# Altium footprint library Capacitor_updated.PcbLib: 42 footprints (part 2 of 3)
Each footprint in its own frame and in the unit in brackets; x right, y up, seen from the top. Pads: shape width x height; smd on the part's side, far side on the other; paste and mask are expansions set on the pad; w line width, h text height; cw(c..) or ccw(c..) is an arc to the next point about the centre after c.
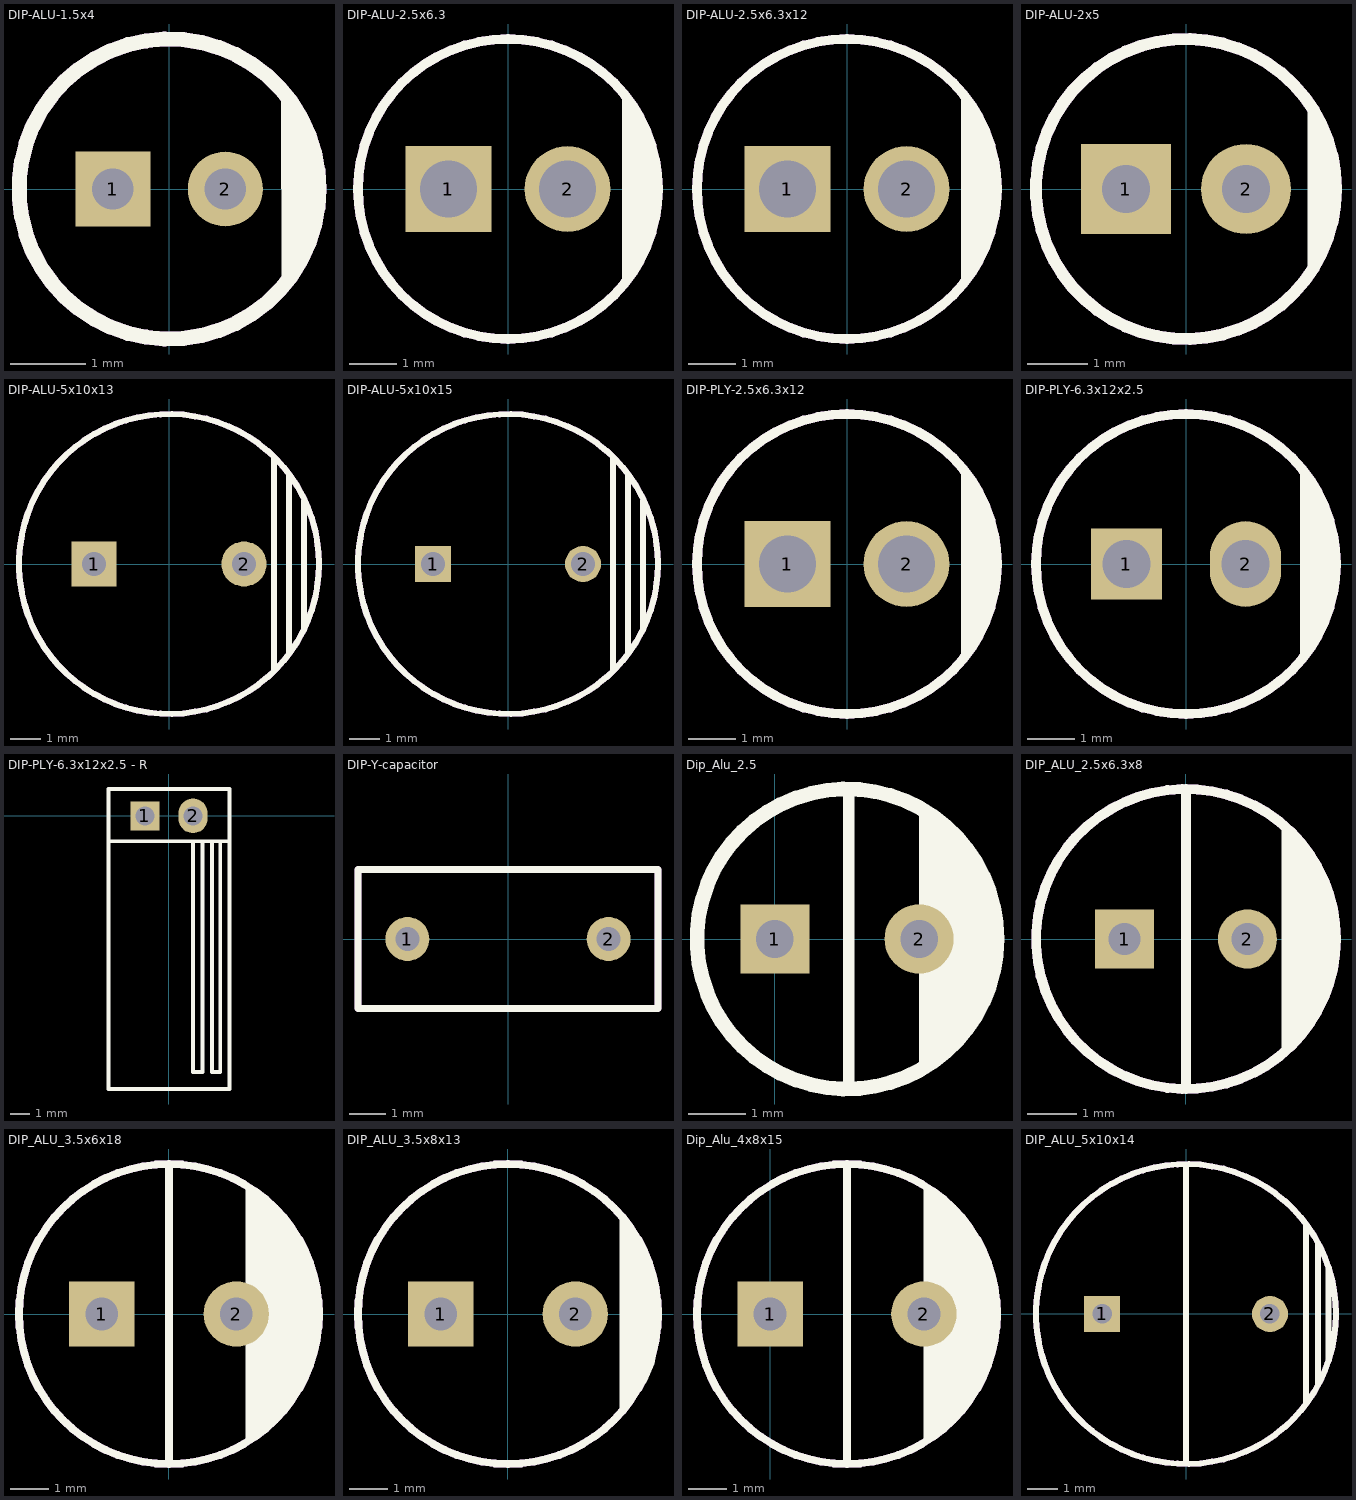
[diagram p1: the footprints below, top view; thin cyan lines are the x and y axes]

## DIP-ALU-1.5x4 [mm]
pads (2):
  rect 1x1 hole 0.55: 1(-0.75,0)
  round 1 hole 0.55: 2(0.75,0)
Top Overlay:
  circle w0.2: c0,0 r2
  region: 1.5,1.228 1.5,-1.228 1.596,-1.155 1.755,-0.973 1.875,-0.764 1.952,-0.536 1.968,-0.416 1.968,0.263 1.96,0.401 1.89,0.668 1.77,0.916 1.603,1.136
Mechanical 13:
  circle w0.2: c0,0 r2
  text ".Designator" at -1.6,0.66 h1
3D body "CAPPRD150W55D400H800.STEP": height 8.01, standoff -2, extent -2.005,-2 2.005,2

## DIP-ALU-2.5x6.3 [mm] "Capacitor, Polarized, Radial (Electrolytic); 2.50 mm C X 6.30 mm Dia X 15.00 mm H body"
height 15
pads (2):
  rect 1.8x1.8 hole 1.2 paste-1.8: 1(-1.25,0)
  round 1.8 hole 1.2 paste-1.8: 2(1.25,0)
Top Overlay:
  circle w0.2: c0,0 r3.15
  circle w0.2: c0,0 r3.15
  region: 2.4,2.05 2.4,-2.05 2.406,-2.044 2.583,-1.867 2.861,-1.451 3.052,-0.989 3.15,-0.498 3.15,-0.248 3.15,0.31 3.15,0.545 3.058,1.007 2.878,1.442 2.616,1.834 2.45,2
Mechanical 12:
  circle w0.025: c-1.25,0 r0.5
  circle w0.025: c1.25,0 r0.5
Mechanical 13:
  circle w0.2: c0,0 r3.15
  text ".Designator" at -2.388,0.991 h1
3D body "CA-ALU-250W100D630H1500.STEP": height 15.15, standoff -2.16, extent -3.15,-3.931 3.16,3.25

## DIP-ALU-2.5x6.3x12 [mm] "Capacitor, Polarized, Radial (Electrolytic); 2.50 mm C X 6.30 mm Dia X 15.00 mm H body"
height 15
pads (2):
  rect 1.8x1.8 hole 1.2 paste-1.8: 1(-1.25,0)
  round 1.8 hole 1.2 paste-1.8: 2(1.25,0)
Top Overlay:
  circle w0.2: c0,0 r3.15
  circle w0.2: c0,0 r3.15
  region: 2.4,2.05 2.4,-2.05 2.406,-2.044 2.583,-1.867 2.861,-1.451 3.052,-0.989 3.15,-0.498 3.15,-0.248 3.15,0.31 3.15,0.545 3.058,1.007 2.878,1.442 2.616,1.834 2.45,2
Mechanical 12:
  circle w0.025: c-1.25,0 r0.5
  circle w0.025: c1.25,0 r0.5
  circle w0.025: c0,0 r3.15
Mechanical 13:
  circle w0.2: c0,0 r3.15
  text ".Designator" at -2.362,1.016 h1
3D body: height 12, standoff 0, extent -3.15,-3.147 3.15,3.147
3D body: height 12.02, standoff 0, extent 2.386,-2 3.214,2

## DIP-ALU-2x5 [mm] "Polarized capacitors, Aluminum Electrolytic Capacitors, 2-Leads, Body 5x11x2x0.5"
height 11
pads (2):
  rect 1.5x1.5 hole 0.8: 1(-1,0)
  round 1.5 hole 0.8: 2(1,0)
Top Overlay:
  circle w0.2: c0,0 r2.5
  region: 2.032,1.524 2.032,-1.524 2.143,-1.413 2.318,-1.151 2.439,-0.86 2.5,-0.552 2.5,-0.394 2.5,0.394 2.5,0.552 2.439,0.86 2.318,1.151 2.143,1.413
Mechanical 13:
  circle w0.2: c0,0 r2.5
  text ".Designator" at -2.032,0.787 h1
3D body "CAPPRD200W60D500H930.STEP": height 9.31, standoff -2, extent -2.555,-2.55 2.455,2.45

## DIP-ALU-5x10x13 [mm]
pads (2):
  rect 1.5x1.5 hole 0.8: 1(-2.5,0)
  round 1.5 hole 0.8: 2(2.5,0)
Top Overlay:
  circle w0.2: c0,0 r5
  lines w0.2: 3.5,-3.5 3.5,3.5 ; 4,-3 4,3 ; 4.5,-2.2 4.5,2.1
Mechanical 13:
  circle w0.2: c0,0 r5
  text ".Designator" at -3.581,0.914 h1.5
3D body "El_5_10_13_Black.STEP": height 13, standoff -4.75, extent -5,-5 5,5

## DIP-ALU-5x10x15 [mm]
pads (2):
  rect 1.2x1.2 hole 0.8: 1(-2.5,0)
  round 1.2 hole 0.8: 2(2.5,0)
Top Overlay:
  circle w0.2: c0,0 r5
  lines w0.2: 3.5,-3.5 3.5,3.5 ; 4,-3 4,3 ; 4.5,-2.2 4.5,2.1
Mechanical 13:
  circle w0.2: c0,0 r5
  text ".Designator" at -3.683,0.991 h1.5
3D body: height 15, standoff 0, extent 2,-4.483 5,4.683
3D body: height 15, standoff 0, extent -5,-4.908 2,5.108

## DIP-PLY-2.5x6.3x12 [mm] "Capacitor, Polarized, Radial (Electrolytic); 2.50 mm C X 6.30 mm Dia X 15.00 mm H body"
height 15
pads (2):
  rect 1.8x1.8 hole 1.2 paste-1.8: 1(-1.25,0)
  round 1.8 hole 1.2 paste-1.8: 2(1.25,0)
Top Overlay:
  circle w0.2: c0,0 r3.15
  circle w0.2: c0,0 r3.15
  region: 2.4,2.05 2.4,-2.05 2.406,-2.044 2.583,-1.867 2.861,-1.451 3.052,-0.989 3.15,-0.498 3.15,-0.248 3.15,0.31 3.15,0.545 3.058,1.007 2.878,1.442 2.616,1.834 2.45,2
Mechanical 12:
  circle w0.025: c0,0 r3.15
  circle w0.025: c1.25,0 r0.5
  circle w0.025: c-1.25,0 r0.5
Mechanical 13:
  circle w0.2: c0,0 r3.15
  text ".Designator" at -2.413,0.965 h1
3D body: height 12.02, standoff 0, extent 2.386,-2 3.214,2
3D body: height 12, standoff 0, extent -3.15,-3.147 3.15,3.147

## DIP-PLY-6.3x12x2.5 [mm] "Capacitor, Polarized, Radial (Electrolytic); 2.50 mm C X 6.30 mm Dia X 15.00 mm H body"
height 15
pads (2):
  rect 1.5x1.5 hole 1 paste-1.8: 1(-1.25,0)
  oval 1.5x1.8 hole 1 paste-1.8: 2(1.25,0)
Top Overlay:
  circle w0.12: c0,0 r3.15
  circle w0.2: c0,0 r3.15
  region: 2.4,2.05 2.4,-2.05 2.406,-2.044 2.583,-1.867 2.861,-1.451 3.052,-0.989 3.15,-0.498 3.15,0.545 3.058,1.007 2.878,1.442 2.616,1.834 2.45,2
Mechanical 12:
  circle w0.025: c0,0 r3.15
  circle w0.025: c1.25,0 r0.5
  circle w0.025: c-1.25,0 r0.5
Mechanical 13:
  circle w0.2: c0,0 r3.15
  text ".Designator" at -2.9,-0.7 h1.5
Mechanical 15:
  circle w0.2: c0,0 r3.15
  text ".Comment" at -2.9,-0.45 h1.5
3D body "User Library-CAPAER_D063_L130_P025_W005X030.STEP": height 13.01, standoff -3, extent -3.15,-3.15 3.16,3.15

## DIP-PLY-6.3x12x2.5 - R [mm] "Capacitor, Polarized, Radial (Electrolytic); 2.50 mm C X 6.30 mm Dia X 15.00 mm H body"
height 15
pads (2):
  rect 1.5x1.5 hole 1 paste-1.8: 1(-1.25,0)
  oval 1.5x1.8 hole 1 paste-1.8: 2(1.25,0)
Top Overlay:
  lines w0.2: -3.15,-1.321 3.15,-1.321 ; 1.25,-1.321 1.25,-13.321 1.75,-13.321 1.75,-1.321 2.235,-1.321 2.235,-13.321 2.667,-13.321 2.667,-1.321 ; -3.15,-14.199 3.15,-14.199 3.15,1.397 -3.15,1.397 -3.15,-14.199
Mechanical 12:
  circle w0.025: c-1.25,0 r0.5
  circle w0.025: c1.25,0 r0.5
Mechanical 13:
  text ".Designator" at -2.9,-0.7 h1.5
3D body "User Library-CAPAER_D063_L130_P025_W005X030.STEP": height 7.15, standoff 0.85, extent -3.104,-14.199 3.206,1.815

## DIP-Y-capacitor [mm]
pads (2):
  round 1.2 hole 0.65: 1(-2.75,0) 2(2.75,0)
Top Overlay:
  lines w0.2: -4.1,-1.9 -4.1,1.9 4.1,1.9 4.1,-1.9 -4.1,-1.9
Mechanical 13:
  lines w0.2: -4.1,-1.9 4.1,-1.9 4.1,1.9 -4.1,1.9 -4.1,-1.9
  text ".Designator" at -2.007,-0.279 h1
3D body "CAPY250VAC.STEP": height 8, standoff -2, extent -4,-1.75 4,1.75

## Dip_Alu_2.5 [mm]
pads (2):
  rect 1.2x1.2 hole 0.65: 1(0,0)
  round 1.2 hole 0.65: 2(2.5,0)
Top Overlay:
  circle w0.254: c1.25,0 r2.6
  region: 2.5,-2.25 2.5,2.293 3.772,0.94 3.772,-0.978
  lines w0.2: 1.277,-2.575 1.277,2.575
Mechanical 13:
  circle w0.2: c1.25,0 r2.6
  text ".Designator" at -0.94,0.762 h1
3D body "ESK226M050AC3AA.step": height 13, standoff -19.5, extent -1.5,-2.7 4,2.8

## DIP_ALU_2.5x6.3x8 [mm]
height 8
pads (2):
  rect 1.2x1.2 hole 0.65: 1(-1.25,0)
  round 1.2 hole 0.65: 2(1.25,0)
Top Overlay:
  circle w0.2: c0,0 r3.05
  region: 1.95,-2.311 1.95,2.274 2.754,1.42 3.05,0.671 3.05,-0.738 2.794,-1.356
  lines w0.2: 0,-3.05 0,3.05
Mechanical 13:
  circle w0.2: c0,0 r3.05
  text ".Designator" at -2.489,0.838 h1
3D body "RS8.step": height 7.85, standoff -3.96, extent -3.155,-3.146 3.145,3.147

## DIP_ALU_3.5x6x18 [mm]
pads (2):
  rect 1.7x1.7 hole 0.85: 1(-1.75,0)
  round 1.7 hole 0.85: 2(1.75,0)
Top Overlay:
  circle w0.2: c0,0 r3.9
  region: 2,3.327 3.2,2.362 3.7,1.4 3.886,0.483 3.783,-1.167 3.7,-1.25 3.5,-1.727 3.271,-2.179 2.15,-3.3 2,-3.3
  lines w0.2: 0,-3.85 0,3.9
Mechanical 13:
  circle w0.2: c0,0 r3.9
  text ".Designator" at -3.353,1.092 h1.5
3D body "PCAP_8x15-THRU-ELECT.stp": height 14.78, standoff -4.67, extent -4.013,-4 4.013,4

## DIP_ALU_3.5x8x13 [mm]
pads (2):
  rect 1.7x1.7 hole 0.85: 1(-1.75,0)
  round 1.7 hole 0.85: 2(1.75,0)
Top Overlay:
  circle w0.2: c0,0 r3.9
  region: 2.9,-2.6 3.156,-2.344 3.333,-2.167 3.611,-1.751 3.802,-1.289 3.9,-0.798 3.9,-0.548 3.9,0.448 3.9,0.698 3.802,1.189 3.611,1.651 3.333,2.067 3.156,2.244 2.9,2.5
Mechanical 13:
  circle w0.2: c0,0 r3.9
  text ".Designator" at -2.997,-0.33 h1.5
3D body "User Library-Cap electro 8x11_5x3_5mm.step": height 12.03, standoff -3.48, extent -4.025,-4.025 4.026,4.026

## Dip_Alu_4x8x15 [mm]
pads (2):
  rect 1.7x1.7 hole 0.85: 1(0,0)
  round 1.7 hole 0.85: 2(4,0)
Top Overlay:
  circle w0.2: c2,0 r3.9
  region: 4,3.419 5.335,2.168 5.7,1.4 5.842,0.94 5.893,-0.787 5.7,-1.25 5.682,-1.292 5.419,-1.924 4.15,-3.3 4,-3.3
  lines w0.2: 2,-3.85 2,3.9
Mechanical 13:
  circle w0.2: c2,0 r3.9
  text ".Designator" at -0.229,1.194 h1
3D body "PCAP_8x15-THRU-ELECT.stp": height 14.78, standoff -4.67, extent -2.032,-4 5.994,4

## DIP_ALU_5x10x14 [mm]
height 8
pads (2):
  rect 1.2x1.2 hole 0.65: 1(-2.8,0)
  round 1.2 hole 0.65: 2(2.8,0)
Top Overlay:
  circle w0.2: c0,0 r5
  lines w0.2: 0,-4.978 0,4.975 ; 4,-3 4,3 ; 4.398,-2.337 4.398,2.337 ; 4.75,-1.524 4.75,1.524
Mechanical 13:
  circle w0.2: c0,0 r5
  text ".Designator" at -3.099,1.168 h1.5
3D body "CAP10x14.step": height 14.01, standoff -20, extent -5.25,-5.25 5.25,5.25